# Altium footprint library SIM Card.PcbLib: 3 footprints
Each footprint in its own frame and in the unit in brackets; x right, y up, seen from the top. Pads: shape width x height; smd on the part's side, far side on the other; paste and mask are expansions set on the pad; w line width, h text height; cw(c..) or ccw(c..) is an arc to the next point about the centre after c.
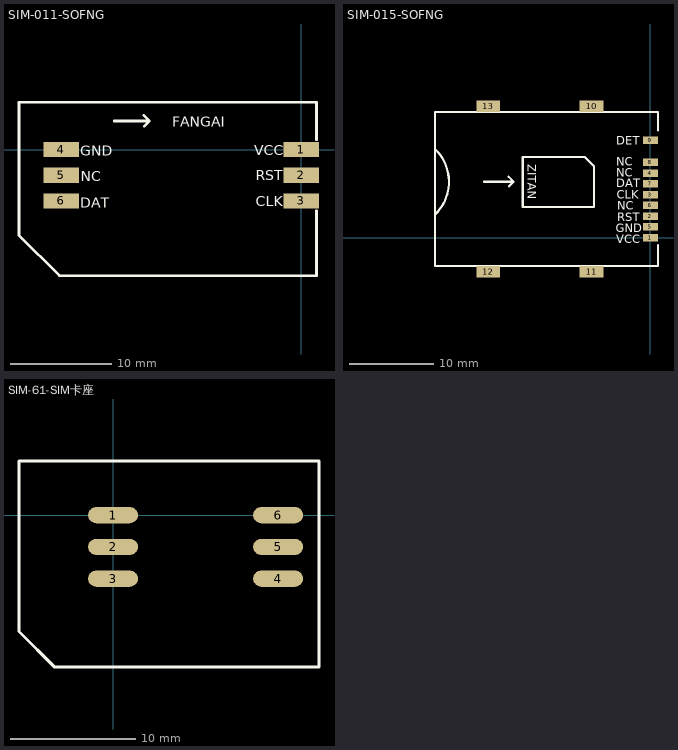
[diagram p0: the footprints below, top view; thin cyan lines are the x and y axes]

## SIM-011-SOFNG [mm]
pads (6):
  rect 3.5x1.5 smd: 1(-0.005,-0.009) 2(-0.005,-2.549) 3(-0.005,-5.089) 4(-23.805,-0.009) 5(-23.805,-2.549) 6(-23.805,-5.089)
Top Overlay:
  lines w0.254: -18.576,2.835 -15.071,2.835 ; -15.655,3.42 -15.071,2.835 ; -15.605,2.302 -15.071,2.835 ; 1.495,-6.08 1.495,-12.509 -24.005,-12.509 -28.005,-8.509 -28.005,4.691 1.495,4.691 1.495,0.956
  text "GND" at -21.925,-0.619 h1
  text "DAT" at -21.95,-5.75 h1
  text "CLK" at -4.53,-5.597 h1
  text "NC" at -21.9,-3.159 h1
  text "RST" at -4.505,-3.032 h1
  text "VCC" at -4.683,-0.568 h1
  text "FANGAI" at -12.811,2.251 h1

## SIM-015-SOFNG [mm]
pads (13):
  rect 1.8x0.9 smd: 1(0,0) 2(0,2.54) 3(0,5.08) 4(0,7.62) 5(0,1.27) 6(0,3.81) 7(0,6.35) 8(0,8.89) 9(0,11.49)
  rect 2.8x1.35 smd: 10(-6.95,15.515) 11(-6.95,-4.035) 12(-19.15,-4.035) 13(-19.15,15.515)
Top Overlay:
  lines w0.254: -25.45,2.726 ccw(c-29.187,6.59) -25.324,10.327 ; -19.679,6.604 -16.174,6.604 ; -16.758,7.188 -16.174,6.604 ; -16.707,6.07 -16.174,6.604 ; -15.088,9.5 -15.088,3.607 -14.656,3.607 -13.36,3.607 ; -15.062,9.525 -13.106,9.525 ; -13.665,3.607 -6.655,3.607 -6.655,8.407 -7.772,9.525 -13.665,9.525 ; 0.9,-0.914 0.9,-3.36 -25.45,-3.36 -25.45,14.84 0.9,14.84 0.9,12.649
  text "GND" at -4.089,0.61 h1
  text "DET" at -4.039,10.998 h1
  text "NC" at -4.013,8.484 h1
  text "NC" at -4.013,7.188 h1
  text "DAT" at -4.039,5.918 h1
  text "CLK" at -3.988,4.597 h1
  text "NC" at -3.912,3.277 h1
  text "RST" at -3.937,1.905 h1
  text "VCC" at -4.064,-0.66 h1
  text "ZITAN" at -14.472,8.686 h1

## SIM-61-SIM卡座 [mm]
pads (6):
  oval 4x1.3 smd: 1(0,0) 2(0,-2.54) 3(0,-5.08) 4(13.208,-5.08) 5(13.208,-2.54) 6(13.208,0)
Top Overlay:
  lines w0.254: -7.524,-9.31 -4.674,-12.16 16.476,-12.16 16.476,4.34 -7.524,4.34 -7.524,-9.31
3D body "Sim Card Holder.STEP": height 1.8, standoff 0, extent -0.022,-12.082 16.278,4.318